# Altium schematic symbol library LTV-814S.SchLib: 1 symbol
Pins are listed as number, name and electrical type; pins without a type are passive.

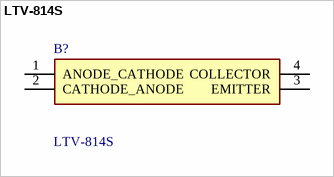
[diagram p0: symbol LTV-814S]

## LTV-814S
designator B?
Optocoupler LTV-814S; Manufacturer_Name: Lite-On; Geometry.Height: 4.6mm; Manufacturer_Part_Number: LTV-814S; Mouser Part Number: 859-LTV-814S; Mouser Price/Stock: https://www.mouser.co.uk/ProductDetail/Lite-On/LTV-814S?qs=JzJdhgWJh%252BMQRrTS0RmA%252BA%3D%3D; Arrow Part Number: LTV-814S; Arrow Price/Stock: https://www.arrow.com/en/products/ltv-814s/lite-on-technology?utm_currency=USD&region=nac; Datasheet Link: https://datasheet.datasheetarchive.com/originals/distributors/Datasheets-17/DSA-322887.pdf
footprint SOP254P1016X460-4N
pins: 1 ANODE_CATHODE, 2 CATHODE_ANODE, 3 EMITTER, 4 COLLECTOR